# EAGLE library part ESP-12F (library Deegou-Interface-ICs)
ESP8266 WIFI MODULE PCB ANT
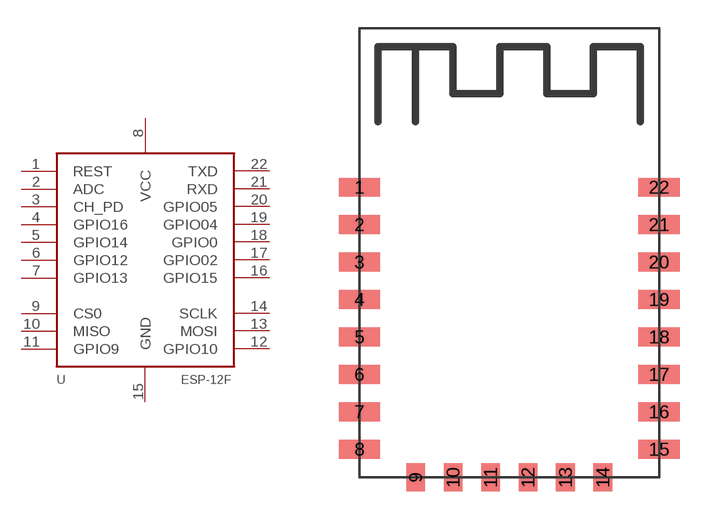
[diagram p2: symbol with the pads of ESP-12F; footprint ESP-12F]

Designator prefix U

## ESP-12F (MFR: Ai-Thinker; MPN: ESP-12F; VALUE: ESP-12F)  [ESP-12F]
1  REST
2  ADC
3  CH_PD
4  GPIO16
5  GPIO14
6  GPIO12
7  GPIO13
8  VCC
9  CS0
10  MISO
11  GPIO9
12  GPIO10
13  MOSI
14  SCLK
15  GND
16  GPIO15
17  GPIO02
18  GPIO0
19  GPIO04
20  GPIO05
21  RXD
22  TXD

## Footprint ESP-12F (pad centres in mm)
smd 2.2 x 1: 1 -7.62,4.07; 2 -7.62,2.07; 3 -7.62,0.07; 4 -7.62,-1.93; 5 -7.62,-3.93; 6 -7.62,-5.93; 7 -7.62,-7.93; 8 -7.62,-9.93; 15 8.38,-9.93; 16 8.38,-7.93; 17 8.38,-5.93; 18 8.38,-3.93; 19 8.38,-1.93; 20 8.38,0.07; 21 8.38,2.07; 22 8.38,4.07
smd 1 x 1.5: 9 -4.62,-11.43; 10 -2.62,-11.43; 11 -0.62,-11.43; 12 1.38,-11.43; 13 3.38,-11.43; 14 5.38,-11.43